# Altium integrated library LD3985M33R.IntLib: 1 symbol
Pins are listed as number, name and electrical type; pins without a type are passive.

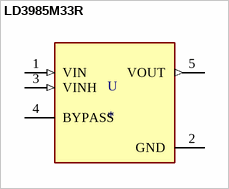
[diagram p0: symbol LD3985M33R]

## LD3985M33R
designator U
Linear Voltage Regulator IC 1 Output 150mA SOT-23-5; MP: LD3985M33R; MF: STMicroelectronics; SnapEDA_Link: https://www.snapeda.com/parts/LD3985M33R/STMicroelectronics/view-part/449344/?ref=snap; Price: None; Package: SOT-23-5 STMicroelectronics; Value: *; Availability: Unavailable
footprint SOT95P280X145-5N
pins: 1 VIN (in), 2 GND (power), 3 VINH (in), 4 BYPASS, 5 VOUT (out)